# Altium footprint library KXG1203A.PcbLib: 1 footprints
Each footprint in its own frame and in the unit in brackets; x right, y up, seen from the top. Pads: shape width x height; smd on the part's side, far side on the other; paste and mask are expansions set on the pad; w line width, h text height; cw(c..) or ccw(c..) is an arc to the next point about the centre after c.
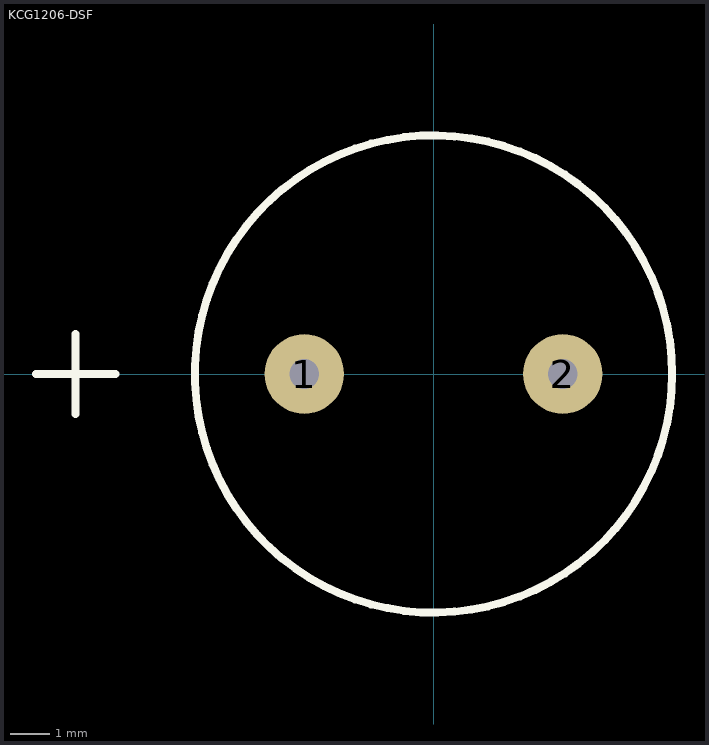
[diagram p0: the footprint, top view; thin cyan lines are the x and y axes]

## KCG1206-DSF [mm]
pads (2):
  round 2 hole 0.75: 1(-3.25,0) 2(3.25,0)
Top Overlay:
  circle w0.2: c0,0 r6
  lines w0.2: -10,0 -8,0 ; -9,-1 -9,1
3D body "KXG1203A--3DModel-STEP-532303.STEP": height 9.5, standoff -3.5, extent -6,-6 6,6